# EAGLE library part M.2-M-KEY (library ds_con)
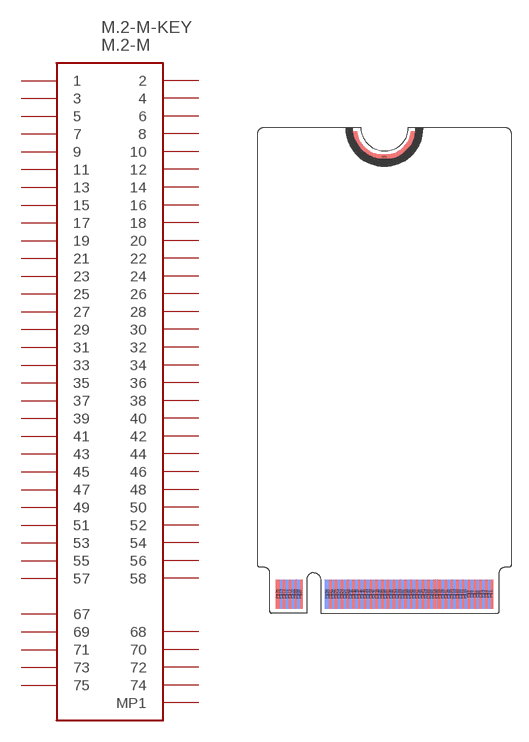
[diagram p40: symbol with the pads of M.2-M-KEY; footprint M.2-M-KEY]

Designator prefix M.2-M

## M.2-M-KEY  [M.2-M-KEY]
MT1  MP1
P$1  1
P$2  2
P$3  3
P$4  4
P$5  5
P$6  6
P$7  7
P$8  8
P$9  9
P$10  10
P$11  11
P$12  12
P$13  13
P$14  14
P$15  15
P$16  16
P$17  17
P$18  18
P$19  19
P$20  20
P$21  21
P$22  22
P$23  23
P$24  24
P$25  25
P$26  26
P$27  27
P$28  28
P$29  29
P$30  30
P$31  31
P$32  32
P$33  33
P$34  34
P$35  35
P$36  36
P$37  37
P$38  38
P$39  39
P$40  40
P$41  41
P$42  42
P$43  43
P$44  44
P$45  45
P$46  46
P$47  47
P$48  48
P$49  49
P$50  50
P$51  51
P$52  52
P$53  53
P$54  54
P$55  55
P$56  56
P$57  57
P$58  58
P$67  67
P$68  68
P$69  69
P$70  70
P$71  71
P$72  72
P$73  73
P$74  74
P$75  75

## Footprint M.2-M-KEY (pad centres in mm)
smd 0.305 x 0.152: MT1 -0.5,17.6
smd 0.35 x 2.5: P$1 8.75,-20.21; P$3 8.25,-20.21; P$5 7.75,-20.21; P$7 7.25,-20.21; P$9 6.75,-20.21; P$11 6.25,-20.21; P$13 5.75,-20.21; P$15 5.25,-20.21; P$17 4.75,-20.21; P$19 4.25,-20.21; P$21 3.75,-20.21; P$23 3.25,-20.21; P$25 2.75,-20.21; P$27 2.25,-20.21; P$29 1.75,-20.21; P$31 1.25,-20.21; P$33 0.75,-20.21; P$35 0.25,-20.21; P$37 -0.25,-20.21; P$39 -0.75,-20.21; P$41 -1.25,-20.21; P$43 -1.75,-20.21; P$45 -2.25,-20.21; P$47 -2.75,-20.21; P$49 -3.25,-20.21; P$51 -3.75,-20.21; P$53 -4.25,-20.21; P$55 -4.75,-20.21; P$57 -5.25,-20.21; P$67 -7.75,-20.21; P$69 -8.25,-20.21; P$71 -8.75,-20.21; P$73 -9.25,-20.21; P$75 -9.75,-20.21
smd 0.35 x 2.5 bottom: P$2 8.5,-20.21; P$4 8,-20.21; P$6 7.5,-20.21; P$8 7,-20.21; P$10 6.5,-20.21; P$12 6,-20.21; P$14 5.5,-20.21; P$16 5,-20.21; P$18 4.5,-20.21; P$20 4,-20.21; P$22 3.5,-20.21; P$24 3,-20.21; P$26 2.5,-20.21; P$28 2,-20.21; P$30 1.5,-20.21; P$32 1,-20.21; P$34 0.5,-20.21; P$36 0,-20.21; P$38 -0.5,-20.21; P$40 -1,-20.21; P$42 -1.5,-20.21; P$44 -2,-20.21; P$46 -2.5,-20.21; P$48 -3,-20.21; P$50 -3.5,-20.21; P$52 -4,-20.21; P$54 -4.5,-20.21; P$56 -5,-20.21; P$58 -5.5,-20.21; P$68 -8,-20.21; P$70 -8.5,-20.21; P$72 -9,-20.21; P$74 -9.5,-20.21